# EAGLE library part DTM13-12PA-R005 (library WFR_symbols)
DTM13-12PA-R005 pin headers Datasheet link: https://www.mouser.ca/datasheet/2/418/2/NG_CD_DTM13-12PA-R005_--605614.pdf Specced to screw with M2 holes.
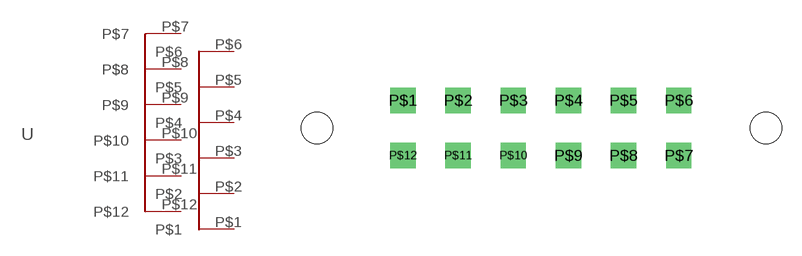
[diagram p0: symbol with the pads of DTM13-12PA-R005; footprint DTM13-12PA-R005]

Designator prefix -

## DTM13-12PA-R005  [DTM13-12PA-R005]
P$1  P$1
P$2  P$2
P$3  P$3
P$4  P$4
P$5  P$5
P$6  P$6
P$7  P$7
P$8  P$8
P$9  P$9
P$10  P$10
P$11  P$11
P$12  P$12

## Footprint DTM13-12PA-R005 (pad centres in mm)
drill 1.29 square: P$1 10.045,7.6; P$2 14.245,7.6; P$3 18.445,7.6; P$4 22.645,7.6; P$5 26.845,7.6; P$6 31.045,7.6; P$7 31.045,3.4; P$8 26.845,3.4; P$9 22.645,3.4; P$10 18.445,3.4; P$11 14.245,3.4; P$12 10.045,3.4
hole 2.4 at 3.5,5.5
hole 2.4 at 37.69,5.5